# Altium schematic symbol library 2024-01-24_16-15-17.SchLib: 1 symbol
Pins are listed as number, name and electrical type; pins without a type are passive.

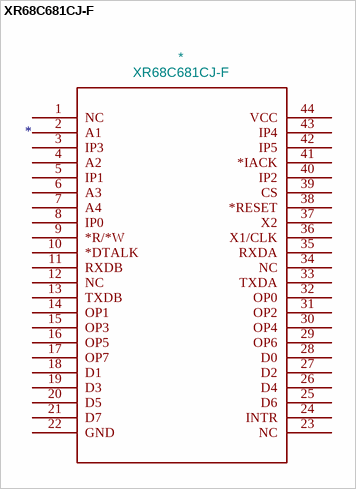
[diagram p0: symbol XR68C681CJ-F]

## XR68C681CJ-F
designator *  value XR68C681CJ-F
ki_fp_filters: PLCC-44 PLCC-44-M PLCC-44-L; Footprint: PLCC-44; Supplier: XR68C681CJ-F; ki_keywords: XR68C681CJ-F
footprint PLCC-44
pins: 1 NC, 2 A1, 3 IP3, 4 A2, 5 IP1, 6 A3, 7 A4, 8 IP0, 9 *R/*W, 10 *DTALK, 11 RXDB, 12 NC, 13 TXDB, 14 OP1, 15 OP3, 16 OP5, 17 OP7, 18 D1, 19 D3, 20 D5, 21 D7, 22 GND, 23 NC, 24 INTR, 25 D6, 26 D4, 27 D2, 28 D0, 29 OP6, 30 OP4, 31 OP2, 32 OP0, 33 TXDA, 34 NC, 35 RXDA, 36 X1/CLK, 37 X2, 38 *RESET, 39 CS, 40 IP2, 41 *IACK, 42 IP5, 43 IP4, 44 VCC